# Altium footprint library ESP8266_NodeMCU_12F_V3.PcbLib: 1 footprints
Each footprint in its own frame and in the unit in brackets; x right, y up, seen from the top. Pads: shape width x height; smd on the part's side, far side on the other; paste and mask are expansions set on the pad; w line width, h text height; cw(c..) or ccw(c..) is an arc to the next point about the centre after c.
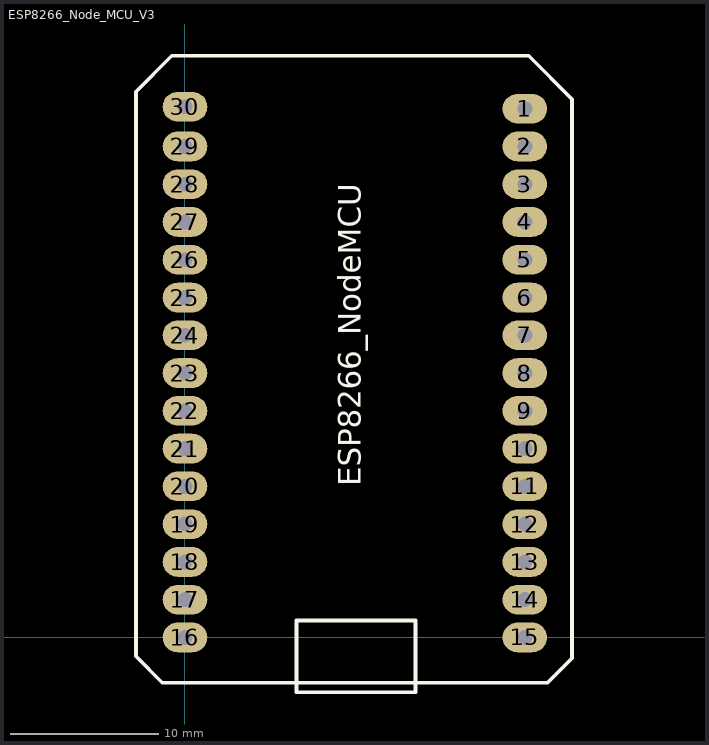
[diagram p0: the footprint, top view; thin cyan lines are the x and y axes]

## ESP8266_Node_MCU_V3 [mm]
pads (30):
  oval 3x2 hole 1 paste+0 mask+0.102: 1(22.86,35.56) 2(22.86,33.02) 3(22.86,30.48) 4(22.86,27.94) 5(22.86,25.4) 6(22.86,22.86) 7(22.86,20.32) 8(22.86,17.78) 9(22.86,15.24) 10(22.86,12.7) 11(22.86,10.16) 12(22.86,7.62) 13(22.86,5.08) 14(22.86,2.54) 15(22.86,0) 16(0,0) 17(0,2.54) 18(0,5.08) 19(0,7.62) 20(0,10.16) 21(0,12.7) 22(0,15.24) 23(0,17.78) 24(0,20.32) 25(0,22.86) 26(0,25.4) 27(0,27.94) 28(0,30.48) 29(0,33.02) 30(0,35.687)
Top Overlay:
  lines w0.254: -3.302,-1.27 -1.524,-3.048 24.384,-3.048 26.035,-1.397 26.035,36.195 23.114,39.116 -0.889,39.116 -3.302,36.703 -3.302,-1.27 ; 7.493,-3.683 15.494,-3.683 15.494,1.143 7.493,1.143 7.493,-3.683
  text "ESP8266_NodeMCU" at 11.811,10.16 h1.52